# EAGLE library part ACS711 (library RobotElementy)
Hall Effect Linear Current Sensor with Overcurrent Fault Output
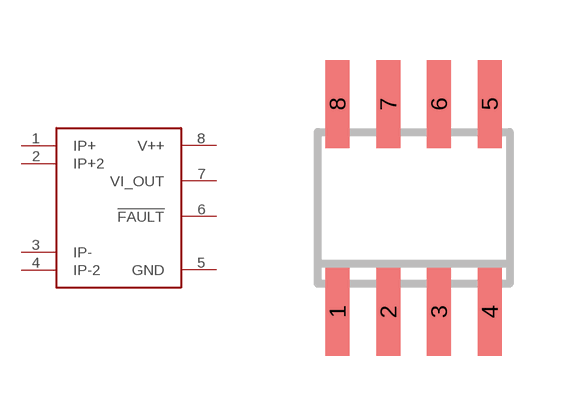
[diagram p5: symbol with the pads of SO8; footprint SO8]

Designator prefix -

## ACS711  [SO8]
1  IP+  pas
2  IP+2  pas
3  IP-  pas
4  IP-2  pas
5  GND  pwr
6  !FAULT  out
7  VI_OUT  out
8  V++  pwr

## Footprint SO8 (pad centres in mm)
SMALL OUTLINE INTEGRATED CIRCUIT
smd 0.6 x 2.2: 1 -1.905,-2.6; 2 -0.635,-2.6; 3 0.635,-2.6; 4 1.905,-2.6; 5 1.905,2.6; 6 0.635,2.6; 7 -0.635,2.6; 8 -1.905,2.6